# Altium integrated library National Semiconductor Audio.IntLib: 683 symbols (part 8 of 18)
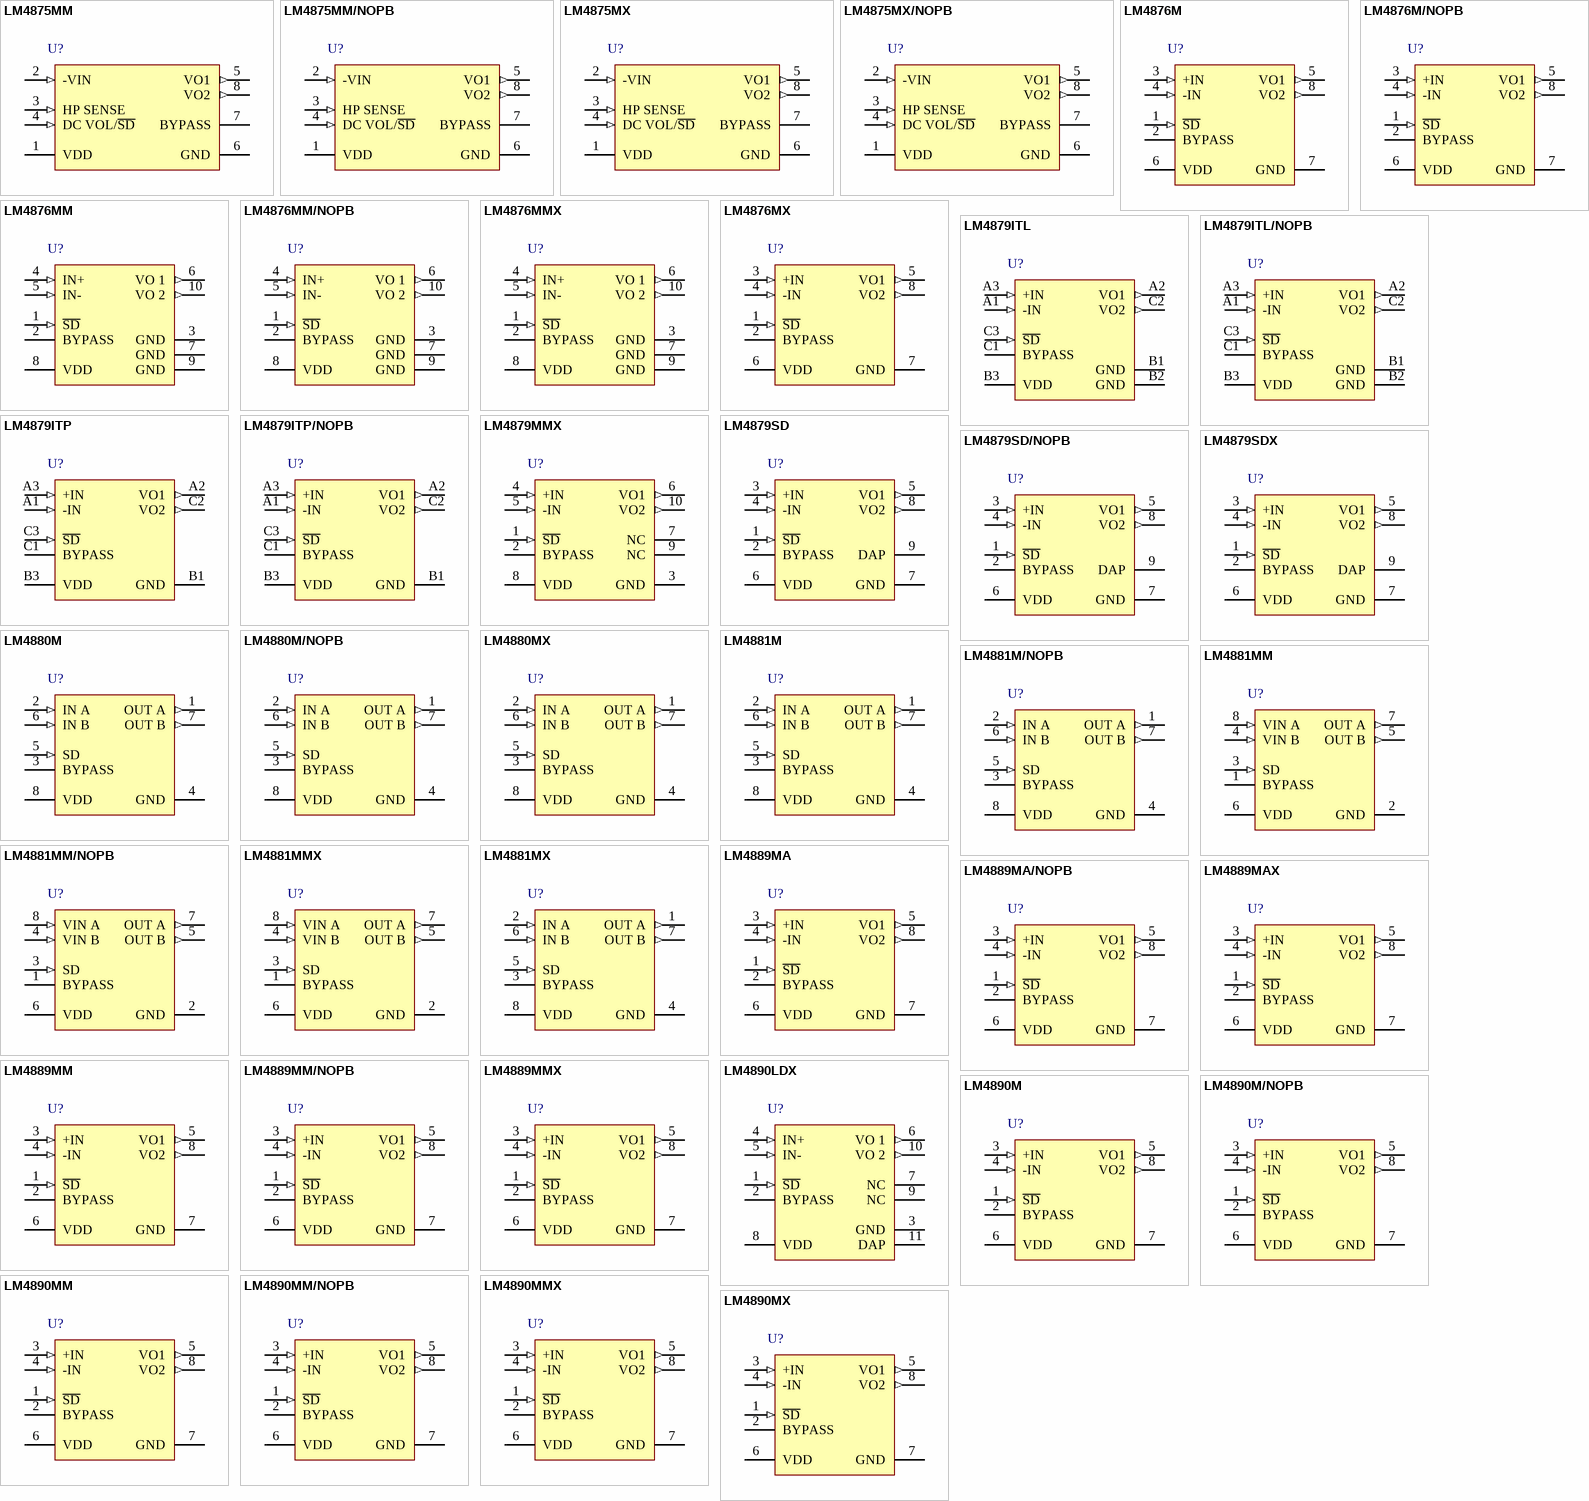
[diagram p34: symbols LM4875MM to LM4890MX]

## LM4890MX
designator U?
1W Audio Power Amplifier, 8-pin Narrow SOIC; PartNumber: LM4890MX; Manufacturer: National Semiconductor; PackageTopMarking: NSZXTT*LM48*90M; PowerWise: N; CompType: Audio IC; High-Reliability: Y; DatasheetVersion: Jul-2006; PackageVersion: revM, May-2009; PackageReference: M08A; PackageDescription: SOIC Narrow, 4.9 x 3.9 x 1.45mm, 8 Lead, 1.27mm Pitch; RoHS: N; PinCount: 8; Code_JEDEC: MS-012-AA; Code_IPC: SOIC127P600-8; ComponentLink1Description: Manufacturer URL; ComponentLink1URL: http://www.national.com/; ComponentLink2Description: LM4890 Datasheet; ComponentLink2URL: http://www.national.com/ds/LM/LM4890.pdf; ComponentLink3Description: LM4890 Web Page; ComponentLink3URL: http://www.national.com/pf/LM/LM4890.html; ComponentLink4Description: M08A Package Page; ComponentLink4URL: http://www.national.com/packaging/folders/m08a.html
footprint M08A_N (SOIC, 8-Leads, Body 4.9x3.9mm, Pitch 1.27mm, IPC Medium Density)
footprint M08A_L (SOIC, 8-Leads, Body 4.9x3.9mm, Pitch 1.27mm, IPC High Density)
footprint M08A_M (SOIC, 8-Leads, Body 4.9x3.9mm, Pitch 1.27mm, IPC Low Density)
pins: 1 ~{SD} (in), 2 BYPASS, 3 +IN (in), 4 -IN (in), 5 VO1 (out), 6 VDD (power), 7 GND (power), 8 VO2 (out)

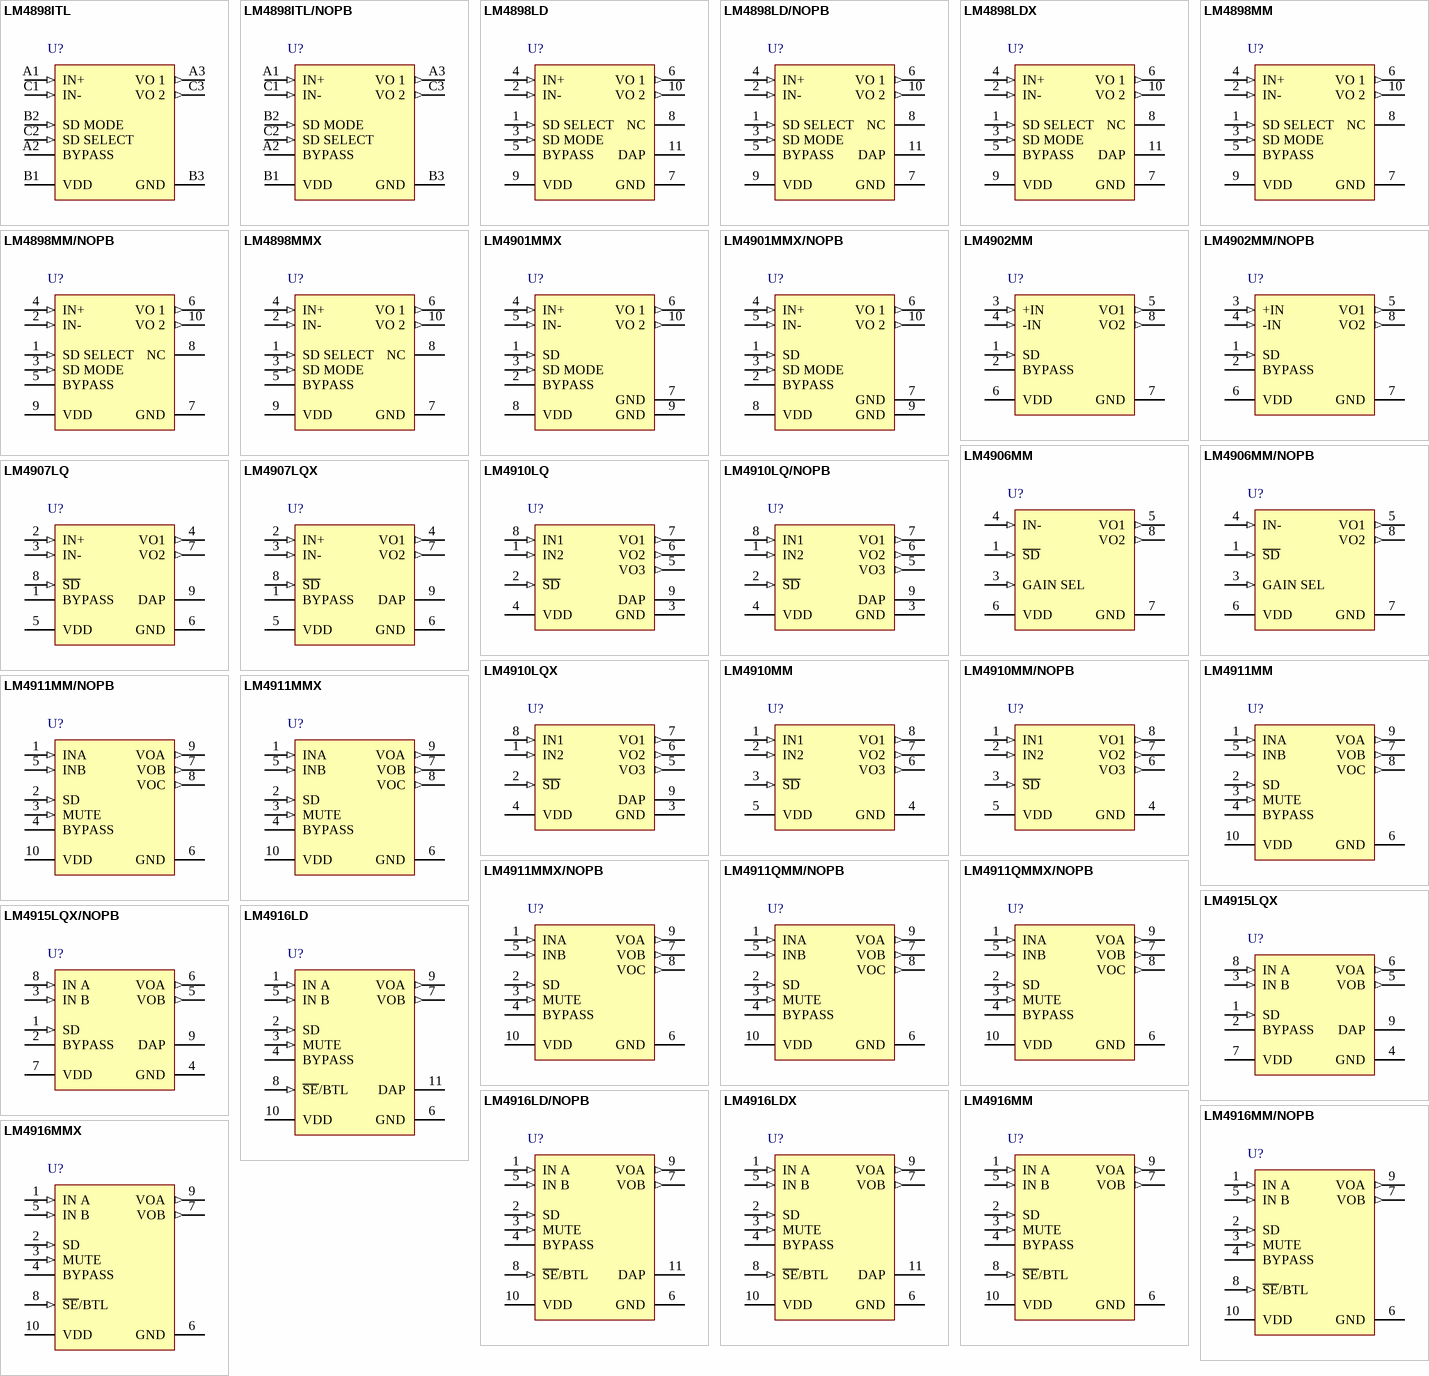
[diagram p10: symbols LM4898ITL to LM4916MMX]

## LM4898ITL
designator U?
1W Fully Differential Audio Power Amplifier With Shutdown Select, 9-pin Micro SMD; PartNumber: LM4898ITL; Manufacturer: National Semiconductor; PackageTopMarking: XVG*I C3; PowerWise: N; CompType: Audio IC; High-Reliability: Y; DatasheetVersion: Jul-2003; PackageVersion: revC, Jan-2004; PackageReference: TLA09AAA; PackageDescription: Thin Micro SMD, 9 Bump (Large), 0.5mm Pitch; RoHS: Y; PinCount: 9; Code_JEDEC: MO-211-DD; ComponentLink1Description: Manufacturer URL; ComponentLink1URL: http://www.national.com/; ComponentLink2Description: LM4898 Datasheet; ComponentLink2URL: http://www.national.com/ds/LM/LM4898.pdf; ComponentLink3Description: LM4898 Web Page; ComponentLink3URL: http://www.national.com/pf/LM/LM4898.html; ComponentLink4Description: TLA09AAA Package Page; ComponentLink4URL: http://www.national.com/packaging/folders/tla09aaa.html
footprint TLA09AAA (Micro SMD, 9-Leads, Body 1.52x1.52mm, Pitch 0.5mm, NSC Recommended)
pins: A1 IN+ (in), A2 BYPASS, A3 VO 1 (out), B1 VDD (power), B2 SD MODE (in), B3 GND (power), C1 IN- (in), C2 SD SELECT (in), C3 VO 2 (out)

## LM4898ITL/NOPB
designator U?
1W Fully Differential Audio Power Amplifier With Shutdown Select, 9-pin Micro SMD, Pb-Free; PartNumber: LM4898ITL/NOPB; Manufacturer: National Semiconductor; PackageTopMarking: XVG*I C3; PowerWise: N; CompType: Audio IC; High-Reliability: Y; DatasheetVersion: Jul-2003; PackageVersion: revC, Jan-2004; PackageReference: TLA09AAA; PackageDescription: Thin Micro SMD, 9 Bump (Large), 0.5mm Pitch; RoHS: Y; PinCount: 9; Code_JEDEC: MO-211-DD; ComponentLink1Description: Manufacturer URL; ComponentLink1URL: http://www.national.com/; ComponentLink2Description: LM4898 Datasheet; ComponentLink2URL: http://www.national.com/ds/LM/LM4898.pdf; ComponentLink3Description: LM4898 Web Page; ComponentLink3URL: http://www.national.com/pf/LM/LM4898.html; ComponentLink4Description: TLA09AAA Package Page; ComponentLink4URL: http://www.national.com/packaging/folders/tla09aaa.html
footprint TLA09AAA (Micro SMD, 9-Leads, Body 1.52x1.52mm, Pitch 0.5mm, NSC Recommended)
pins: A1 IN+ (in), A2 BYPASS, A3 VO 1 (out), B1 VDD (power), B2 SD MODE (in), B3 GND (power), C1 IN- (in), C2 SD SELECT (in), C3 VO 2 (out)

## LM4898LD
designator U?
1W Fully Differential Audio Power Amplifier With Shutdown Select, 11-pin LLP; PartNumber: LM4898LD; Manufacturer: National Semiconductor; PackageTopMarking: ZXYTT*L4898; PowerWise: N; CompType: Audio IC; High-Reliability: Y; DatasheetVersion: Jul-2003; PackageVersion: revB, Jun-2003; PackageReference: LDA10B; PackageDescription: LLP, Plastic, Dual, 3 x 4 x 0.75mm Body, 10 Lead, 0.5mm Pitch; RoHS: N; PinCount: 10; Code_JEDEC: MO-229-WEGD; ComponentLink1Description: Manufacturer URL; ComponentLink1URL: http://www.national.com/; ComponentLink2Description: LM4898 Datasheet; ComponentLink2URL: http://www.national.com/ds/LM/LM4898.pdf; ComponentLink3Description: LM4898 Web Page; ComponentLink3URL: http://www.national.com/pf/LM/LM4898.html; ComponentLink4Description: LDA10B Package Page; ComponentLink4URL: http://www.national.com/packaging/folders/lda10b.html
footprint LDA10B (PSON, 10-Leads, Body 3x4mm, Pitch 0.5mm, NSC Recommended)
pins: 1 SD SELECT (in), 2 IN- (in), 3 SD MODE (in), 4 IN+ (in), 5 BYPASS, 6 VO 1 (out), 7 GND (power), 8 NC, 9 VDD (power), 10 VO 2 (out), 11 DAP (power)

## LM4898LD/NOPB
designator U?
1W Fully Differential Audio Power Amplifier With Shutdown Select, 10-pin LLP, Pb-Free; PartNumber: LM4898LD/NOPB; Manufacturer: National Semiconductor; PackageTopMarking: ZXYTT*L4898; PowerWise: N; CompType: Audio IC; High-Reliability: Y; DatasheetVersion: Jul-2003; PackageVersion: revB, Jun-2003; PackageReference: LDA10B; PackageDescription: LLP, Plastic, Dual, 3 x 4 x 0.75mm Body, 10 Lead, 0.5mm Pitch; RoHS: Y; PinCount: 10; Code_JEDEC: MO-229-WEGD; ComponentLink1Description: Manufacturer URL; ComponentLink1URL: http://www.national.com/; ComponentLink2Description: LM4898 Datasheet; ComponentLink2URL: http://www.national.com/ds/LM/LM4898.pdf; ComponentLink3Description: LM4898 Web Page; ComponentLink3URL: http://www.national.com/pf/LM/LM4898.html; ComponentLink4Description: LDA10B Package Page; ComponentLink4URL: http://www.national.com/packaging/folders/lda10b.html
footprint LDA10B (PSON, 10-Leads, Body 3x4mm, Pitch 0.5mm, NSC Recommended)
pins: 1 SD SELECT (in), 2 IN- (in), 3 SD MODE (in), 4 IN+ (in), 5 BYPASS, 6 VO 1 (out), 7 GND (power), 8 NC, 9 VDD (power), 10 VO 2 (out), 11 DAP (power)

## LM4898LDX
designator U?
1W Fully Differential Audio Power Amplifier With Shutdown Select, 10-pin LLP; PartNumber: LM4898LDX; Manufacturer: National Semiconductor; PackageTopMarking: ZXYTT*L4898; PowerWise: N; CompType: Audio IC; High-Reliability: Y; DatasheetVersion: Jul-2003; PackageVersion: revB, Jun-2003; PackageReference: LDA10B; PackageDescription: LLP, Plastic, Dual, 3 x 4 x 0.75mm Body, 10 Lead, 0.5mm Pitch; RoHS: N; PinCount: 10; Code_JEDEC: MO-229-WEGD; ComponentLink1Description: Manufacturer URL; ComponentLink1URL: http://www.national.com/; ComponentLink2Description: LM4898 Datasheet; ComponentLink2URL: http://www.national.com/ds/LM/LM4898.pdf; ComponentLink3Description: LM4898 Web Page; ComponentLink3URL: http://www.national.com/pf/LM/LM4898.html; ComponentLink4Description: LDA10B Package Page; ComponentLink4URL: http://www.national.com/packaging/folders/lda10b.html
footprint LDA10B (PSON, 10-Leads, Body 3x4mm, Pitch 0.5mm, NSC Recommended)
pins: 1 SD SELECT (in), 2 IN- (in), 3 SD MODE (in), 4 IN+ (in), 5 BYPASS, 6 VO 1 (out), 7 GND (power), 8 NC, 9 VDD (power), 10 VO 2 (out), 11 DAP (power)

## LM4898MM
designator U?
1W Fully Differential Audio Power Amplifier With Shutdown Select, 10-pin MSOP; PartNumber: LM4898MM; Manufacturer: National Semiconductor; PackageTopMarking: ZXTT*GB3; PowerWise: N; CompType: Audio IC; High-Reliability: Y; DatasheetVersion: Jul-2003; PackageVersion: revB, Jul-2003; PackageReference: MUB10A; PackageDescription: Mini-SO, Molded, .118 x .118 x .034in Body, 10 Lead, .0197in Pitch; RoHS: N; PinCount: 10; Code_JEDEC: MO-187-BA; ComponentLink1Description: Manufacturer URL; ComponentLink1URL: http://www.national.com/; ComponentLink2Description: LM4898 Datasheet; ComponentLink2URL: http://www.national.com/ds/LM/LM4898.pdf; ComponentLink3Description: LM4898 Web Page; ComponentLink3URL: http://www.national.com/pf/LM/LM4898.html; ComponentLink4Description: MUB10A Package Page; ComponentLink4URL: http://www.national.com/packaging/folders/mub10a.html
footprint MUB10A_N (TSSOP, 10-Leads, Body 3x3mm, Pitch 0.5mm, IPC Medium Density)
footprint MUB10A_L (TSSOP, 10-Leads, Body 3x3mm, Pitch 0.5mm, IPC High Density)
footprint MUB10A_M (TSSOP, 10-Leads, Body 3x3mm, Pitch 0.5mm, IPC Low Density)
pins: 1 SD SELECT (in), 2 IN- (in), 3 SD MODE (in), 4 IN+ (in), 5 BYPASS, 6 VO 1 (out), 7 GND (power), 8 NC, 9 VDD (power), 10 VO 2 (out)

## LM4898MM/NOPB
designator U?
1W Fully Differential Audio Power Amplifier With Shutdown Select, 10-pin Mini SOIC, Pb-Free; PartNumber: LM4898MM/NOPB; Manufacturer: National Semiconductor; PackageTopMarking: ZXTT*GB3; PowerWise: N; CompType: Audio IC; High-Reliability: Y; DatasheetVersion: Jul-2003; PackageVersion: revB, Jul-2003; PackageReference: MUB10A; PackageDescription: Mini-SO, Molded, .118 x .118 x .034in Body, 10 Lead, .0197in Pitch; RoHS: Y; PinCount: 10; Code_JEDEC: MO-187-BA; ComponentLink1Description: Manufacturer URL; ComponentLink1URL: http://www.national.com/; ComponentLink2Description: LM4898 Datasheet; ComponentLink2URL: http://www.national.com/ds/LM/LM4898.pdf; ComponentLink3Description: LM4898 Web Page; ComponentLink3URL: http://www.national.com/pf/LM/LM4898.html; ComponentLink4Description: MUB10A Package Page; ComponentLink4URL: http://www.national.com/packaging/folders/mub10a.html
footprint MUB10A_N (TSSOP, 10-Leads, Body 3x3mm, Pitch 0.5mm, IPC Medium Density)
footprint MUB10A_L (TSSOP, 10-Leads, Body 3x3mm, Pitch 0.5mm, IPC High Density)
footprint MUB10A_M (TSSOP, 10-Leads, Body 3x3mm, Pitch 0.5mm, IPC Low Density)
pins: 1 SD SELECT (in), 2 IN- (in), 3 SD MODE (in), 4 IN+ (in), 5 BYPASS, 6 VO 1 (out), 7 GND (power), 8 NC, 9 VDD (power), 10 VO 2 (out)

## LM4898MMX
designator U?
1W Fully Differential Audio Power Amplifier With Shutdown Select, 10-pin Mini SOIC; PartNumber: LM4898MMX; Manufacturer: National Semiconductor; PackageTopMarking: ZXTT*GB3; PowerWise: N; CompType: Audio IC; High-Reliability: Y; DatasheetVersion: Jul-2003; PackageVersion: revB, Jul-2003; PackageReference: MUB10A; PackageDescription: Mini-SO, Molded, .118 x .118 x .034in Body, 10 Lead, .0197in Pitch; RoHS: N; PinCount: 10; Code_JEDEC: MO-187-BA; ComponentLink1Description: Manufacturer URL; ComponentLink1URL: http://www.national.com/; ComponentLink2Description: LM4898 Datasheet; ComponentLink2URL: http://www.national.com/ds/LM/LM4898.pdf; ComponentLink3Description: LM4898 Web Page; ComponentLink3URL: http://www.national.com/pf/LM/LM4898.html; ComponentLink4Description: MUB10A Package Page; ComponentLink4URL: http://www.national.com/packaging/folders/mub10a.html
footprint MUB10A_N (TSSOP, 10-Leads, Body 3x3mm, Pitch 0.5mm, IPC Medium Density)
footprint MUB10A_L (TSSOP, 10-Leads, Body 3x3mm, Pitch 0.5mm, IPC High Density)
footprint MUB10A_M (TSSOP, 10-Leads, Body 3x3mm, Pitch 0.5mm, IPC Low Density)
pins: 1 SD SELECT (in), 2 IN- (in), 3 SD MODE (in), 4 IN+ (in), 5 BYPASS, 6 VO 1 (out), 7 GND (power), 8 NC, 9 VDD (power), 10 VO 2 (out)

## LM4901MMX
designator U?
1.6 Watt Audio Power Amplifier with Selectable Shutdown Logic Level, 10-pin Mini SOIC; PartNumber: LM4901MMX; Manufacturer: National Semiconductor; PackageTopMarking: ZXTT*GC1; PowerWise: N; CompType: Audio IC; High-Reliability: Y; DatasheetVersion: Jul-2006; PackageVersion: revB, Jul-2003; PackageReference: MUB10A; PackageDescription: Mini-SO, Molded, .118 x .118 x .034in Body, 10 Lead, .0197in Pitch; RoHS: N; PinCount: 10; Code_JEDEC: MO-187-BA; ComponentLink1Description: Manufacturer URL; ComponentLink1URL: http://www.national.com/; ComponentLink2Description: LM4901 Datasheet; ComponentLink2URL: http://www.national.com/ds/LM/LM4901.pdf; ComponentLink3Description: LM4901 Web Page; ComponentLink3URL: http://www.national.com/pf/LM/LM4901.html; ComponentLink4Description: MUB10A Package Page; ComponentLink4URL: http://www.national.com/packaging/folders/mub10a.html
footprint MUB10A_N (TSSOP, 10-Leads, Body 3x3mm, Pitch 0.5mm, IPC Medium Density)
footprint MUB10A_L (TSSOP, 10-Leads, Body 3x3mm, Pitch 0.5mm, IPC High Density)
footprint MUB10A_M (TSSOP, 10-Leads, Body 3x3mm, Pitch 0.5mm, IPC Low Density)
pins: 1 SD (in), 2 BYPASS, 3 SD MODE (in), 4 IN+ (in), 5 IN- (in), 6 VO 1 (out), 7 GND (power), 8 VDD (power), 9 GND (power), 10 VO 2 (out)

## LM4901MMX/NOPB
designator U?
1.6 Watt Audio Power Amplifier with Selectable Shutdown Logic Level, 10-pin Mini SOIC, Pb-Free; PartNumber: LM4901MMX/NOPB; Manufacturer: National Semiconductor; PackageTopMarking: ZXTT*GC1; PowerWise: N; CompType: Audio IC; High-Reliability: Y; DatasheetVersion: Jul-2006; PackageVersion: revB, Jul-2003; PackageReference: MUB10A; PackageDescription: Mini-SO, Molded, .118 x .118 x .034in Body, 10 Lead, .0197in Pitch; RoHS: Y; PinCount: 10; Code_JEDEC: MO-187-BA; ComponentLink1Description: Manufacturer URL; ComponentLink1URL: http://www.national.com/; ComponentLink2Description: LM4901 Datasheet; ComponentLink2URL: http://www.national.com/ds/LM/LM4901.pdf; ComponentLink3Description: LM4901 Web Page; ComponentLink3URL: http://www.national.com/pf/LM/LM4901.html; ComponentLink4Description: MUB10A Package Page; ComponentLink4URL: http://www.national.com/packaging/folders/mub10a.html
footprint MUB10A_N (TSSOP, 10-Leads, Body 3x3mm, Pitch 0.5mm, IPC Medium Density)
footprint MUB10A_L (TSSOP, 10-Leads, Body 3x3mm, Pitch 0.5mm, IPC High Density)
footprint MUB10A_M (TSSOP, 10-Leads, Body 3x3mm, Pitch 0.5mm, IPC Low Density)
pins: 1 SD (in), 2 BYPASS, 3 SD MODE (in), 4 IN+ (in), 5 IN- (in), 6 VO 1 (out), 7 GND (power), 8 VDD (power), 9 GND (power), 10 VO 2 (out)

## LM4902MM
designator U?
265mW at 3.3V Supply Audio Power Amplifier with Shutdown Mode, 8-pin Mini SOIC; PartNumber: LM4902MM; Manufacturer: National Semiconductor; PackageTopMarking: ZXTT*GC3; PowerWise: N; CompType: Audio IC; High-Reliability: Y; DatasheetVersion: Feb-2002; PackageVersion: revF, Apr-2008; PackageReference: MUA08A; PackageDescription: MINI SOIC, .118 x .118 x .034in, 8 Lead, .0256in Pitch; RoHS: N; PinCount: 8; Code_JEDEC: MO-187-AA; ComponentLink1Description: Manufacturer URL; ComponentLink1URL: http://www.national.com/; ComponentLink2Description: LM4902 Datasheet; ComponentLink2URL: http://www.national.com/ds/LM/LM4902.pdf; ComponentLink3Description: LM4902 Web Page; ComponentLink3URL: http://www.national.com/pf/LM/LM4902.html; ComponentLink4Description: MUA08A Package Page; ComponentLink4URL: http://www.national.com/packaging/folders/mua08a.html
footprint MUA08A_N (TSOP, 8-Leads, Body 3x3mm, Pitch 0.65mm, IPC Medium Density)
footprint MUA08A_L (TSOP, 8-Leads, Body 3x3mm, Pitch 0.65mm, IPC High Density)
footprint MUA08A_M (TSOP, 8-Leads, Body 3x3mm, Pitch 0.65mm, IPC Low Density)
pins: 1 SD (in), 2 BYPASS, 3 +IN (in), 4 -IN (in), 5 VO1 (out), 6 VDD (power), 7 GND (power), 8 VO2 (out)

## LM4902MM/NOPB
designator U?
265mW at 3.3V Supply Audio Power Amplifier with Shutdown Mode, 8-pin Mini SOIC, Pb-Free; PartNumber: LM4902MM/NOPB; Manufacturer: National Semiconductor; PackageTopMarking: ZXTT*GC3; PowerWise: N; CompType: Audio IC; High-Reliability: Y; DatasheetVersion: Feb-2002; PackageVersion: revF, Apr-2008; PackageReference: MUA08A; PackageDescription: MINI SOIC, .118 x .118 x .034in, 8 Lead, .0256in Pitch; RoHS: Y; PinCount: 8; Code_JEDEC: MO-187-AA; ComponentLink1Description: Manufacturer URL; ComponentLink1URL: http://www.national.com/; ComponentLink2Description: LM4902 Datasheet; ComponentLink2URL: http://www.national.com/ds/LM/LM4902.pdf; ComponentLink3Description: LM4902 Web Page; ComponentLink3URL: http://www.national.com/pf/LM/LM4902.html; ComponentLink4Description: MUA08A Package Page; ComponentLink4URL: http://www.national.com/packaging/folders/mua08a.html
footprint MUA08A_N (TSOP, 8-Leads, Body 3x3mm, Pitch 0.65mm, IPC Medium Density)
footprint MUA08A_L (TSOP, 8-Leads, Body 3x3mm, Pitch 0.65mm, IPC High Density)
footprint MUA08A_M (TSOP, 8-Leads, Body 3x3mm, Pitch 0.65mm, IPC Low Density)
pins: 1 SD (in), 2 BYPASS, 3 +IN (in), 4 -IN (in), 5 VO1 (out), 6 VDD (power), 7 GND (power), 8 VO2 (out)

## LM4906MM
designator U?
1W, Bypass-Capacitor-less Audio Power Amplifier with Internal Selectable Gain, 8-pin Mini SOIC; PartNumber: LM4906MM; Manufacturer: National Semiconductor; PackageTopMarking: ZXTT*GA8; PowerWise: N; CompType: Audio IC; High-Reliability: Y; DatasheetVersion: Jan-2005; PackageVersion: revF, Apr-2008; PackageReference: MUA08A; PackageDescription: MINI SOIC, .118 x .118 x .034in, 8 Lead, .0256in Pitch; RoHS: N; PinCount: 8; Code_JEDEC: MO-187-AA; ComponentLink1Description: Manufacturer URL; ComponentLink1URL: http://www.national.com/; ComponentLink2Description: LM4906 Datasheet; ComponentLink2URL: http://www.national.com/ds/LM/LM4906.pdf; ComponentLink3Description: LM4906 Web Page; ComponentLink3URL: http://www.national.com/pf/LM/LM4906.html; ComponentLink4Description: MUA08A Package Page; ComponentLink4URL: http://www.national.com/packaging/folders/mua08a.html
footprint MUA08A_N (TSOP, 8-Leads, Body 3x3mm, Pitch 0.65mm, IPC Medium Density)
footprint MUA08A_L (TSOP, 8-Leads, Body 3x3mm, Pitch 0.65mm, IPC High Density)
footprint MUA08A_M (TSOP, 8-Leads, Body 3x3mm, Pitch 0.65mm, IPC Low Density)
pins: 1 ~{SD} (in), 3 GAIN SEL (in), 4 IN- (in), 5 VO1 (out), 6 VDD (power), 7 GND (power), 8 VO2 (out)

## LM4906MM/NOPB
designator U?
1W, Bypass-Capacitor-less Audio Power Amplifier with Internal Selectable Gain, 8-pin Mini SOIC, Pb-Free; PartNumber: LM4906MM/NOPB; Manufacturer: National Semiconductor; PackageTopMarking: ZXTT*GA8; PowerWise: N; CompType: Audio IC; High-Reliability: Y; DatasheetVersion: Jan-2005; PackageVersion: revF, Apr-2008; PackageReference: MUA08A; PackageDescription: MINI SOIC, .118 x .118 x .034in, 8 Lead, .0256in Pitch; RoHS: Y; PinCount: 8; Code_JEDEC: MO-187-AA; ComponentLink1Description: Manufacturer URL; ComponentLink1URL: http://www.national.com/; ComponentLink2Description: LM4906 Datasheet; ComponentLink2URL: http://www.national.com/ds/LM/LM4906.pdf; ComponentLink3Description: LM4906 Web Page; ComponentLink3URL: http://www.national.com/pf/LM/LM4906.html; ComponentLink4Description: MUA08A Package Page; ComponentLink4URL: http://www.national.com/packaging/folders/mua08a.html
footprint MUA08A_N (TSOP, 8-Leads, Body 3x3mm, Pitch 0.65mm, IPC Medium Density)
footprint MUA08A_L (TSOP, 8-Leads, Body 3x3mm, Pitch 0.65mm, IPC High Density)
footprint MUA08A_M (TSOP, 8-Leads, Body 3x3mm, Pitch 0.65mm, IPC Low Density)
pins: 1 ~{SD} (in), 3 GAIN SEL (in), 4 IN- (in), 5 VO1 (out), 6 VDD (power), 7 GND (power), 8 VO2 (out)

## LM4907LQ
designator U?
1W Audio Power Amplifier, 9-pin LLP; PartNumber: LM4907LQ; Manufacturer: National Semiconductor; PackageTopMarking: XTT*GA9; PowerWise: N; CompType: Audio IC; High-Reliability: Y; DatasheetVersion: Apr-2005; PackageVersion: revB, Nov-2002; PackageReference: LQB08A; PackageDescription: LLP, Plastic, Quad, 2 x 2 x 0.75mm Body, 8 Lead, 0.65mm Pitch; RoHS: N; PinCount: 8; ComponentLink1Description: Manufacturer URL; ComponentLink1URL: http://www.national.com/; ComponentLink2Description: LM4907 Datasheet; ComponentLink2URL: http://www.national.com/ds/LM/LM4907.pdf; ComponentLink3Description: LM4907 Web Page; ComponentLink3URL: http://www.national.com/pf/LM/LM4907.html; ComponentLink4Description: LQB08A Package Page; ComponentLink4URL: http://www.national.com/packaging/folders/lqb08a.html
footprint LQB08A (PQFN, 8-Leads, Body 2x2mm, Pitch 0.65mm, Thermal Pad 0.8x0.8mm, NSC Recommended)
pins: 1 BYPASS, 2 IN+ (in), 3 IN- (in), 4 VO1 (out), 5 VDD (power), 6 GND (power), 7 VO2 (out), 8 ~{SD} (in), 9 DAP (power)

## LM4907LQX
designator U?
1W Audio Power Amplifier, 8-pin LLP; PartNumber: LM4907LQX; Manufacturer: National Semiconductor; PackageTopMarking: XTT*GA9; PowerWise: N; CompType: Audio IC; High-Reliability: Y; DatasheetVersion: Apr-2005; PackageVersion: revB, Nov-2002; PackageReference: LQB08A; PackageDescription: LLP, Plastic, Quad, 2 x 2 x 0.75mm Body, 8 Lead, 0.65mm Pitch; RoHS: N; PinCount: 8; ComponentLink1Description: Manufacturer URL; ComponentLink1URL: http://www.national.com/; ComponentLink2Description: LM4907 Datasheet; ComponentLink2URL: http://www.national.com/ds/LM/LM4907.pdf; ComponentLink3Description: LM4907 Web Page; ComponentLink3URL: http://www.national.com/pf/LM/LM4907.html; ComponentLink4Description: LQB08A Package Page; ComponentLink4URL: http://www.national.com/packaging/folders/lqb08a.html
footprint LQB08A (PQFN, 8-Leads, Body 2x2mm, Pitch 0.65mm, Thermal Pad 0.8x0.8mm, NSC Recommended)
pins: 1 BYPASS, 2 IN+ (in), 3 IN- (in), 4 VO1 (out), 5 VDD (power), 6 GND (power), 7 VO2 (out), 8 ~{SD} (in), 9 DAP (power)

## LM4910LQ
designator U?
Output Capacitor-less Stereo 35mW Headphone Amplifier, 9-pin LLP; PartNumber: LM4910LQ; Manufacturer: National Semiconductor; PackageTopMarking: XTT*GA4; PowerWise: N; CompType: Audio IC; High-Reliability: Y; DatasheetVersion: Jan-2007; PackageVersion: revB, Nov-2002; PackageReference: LQB08A; PackageDescription: LLP, Plastic, Quad, 2 x 2 x 0.75mm Body, 8 Lead, 0.65mm Pitch; RoHS: N; PinCount: 8; ComponentLink1Description: Manufacturer URL; ComponentLink1URL: http://www.national.com/; ComponentLink2Description: LM4910 Datasheet; ComponentLink2URL: http://www.national.com/ds/LM/LM4910.pdf; ComponentLink3Description: LM4910 Web Page; ComponentLink3URL: http://www.national.com/pf/LM/LM4910.html; ComponentLink4Description: LQB08A Package Page; ComponentLink4URL: http://www.national.com/packaging/folders/lqb08a.html
footprint LQB08A (PQFN, 8-Leads, Body 2x2mm, Pitch 0.65mm, Thermal Pad 0.8x0.8mm, NSC Recommended)
pins: 1 IN2 (in), 2 ~{SD} (in), 3 GND (power), 4 VDD (power), 5 VO3 (out), 6 VO2 (out), 7 VO1 (out), 8 IN1 (in), 9 DAP (power)

## LM4910LQ/NOPB
designator U?
Output Capacitor-less Stereo 35mW Headphone Amplifier, 8-pin LLP, Pb-Free; PartNumber: LM4910LQ/NOPB; Manufacturer: National Semiconductor; PackageTopMarking: XTT*GA4; PowerWise: N; CompType: Audio IC; High-Reliability: Y; DatasheetVersion: Jan-2007; PackageVersion: revB, Nov-2002; PackageReference: LQB08A; PackageDescription: LLP, Plastic, Quad, 2 x 2 x 0.75mm Body, 8 Lead, 0.65mm Pitch; RoHS: Y; PinCount: 8; ComponentLink1Description: Manufacturer URL; ComponentLink1URL: http://www.national.com/; ComponentLink2Description: LM4910 Datasheet; ComponentLink2URL: http://www.national.com/ds/LM/LM4910.pdf; ComponentLink3Description: LM4910 Web Page; ComponentLink3URL: http://www.national.com/pf/LM/LM4910.html; ComponentLink4Description: LQB08A Package Page; ComponentLink4URL: http://www.national.com/packaging/folders/lqb08a.html
footprint LQB08A (PQFN, 8-Leads, Body 2x2mm, Pitch 0.65mm, Thermal Pad 0.8x0.8mm, NSC Recommended)
pins: 1 IN2 (in), 2 ~{SD} (in), 3 GND (power), 4 VDD (power), 5 VO3 (out), 6 VO2 (out), 7 VO1 (out), 8 IN1 (in), 9 DAP (power)

## LM4910LQX
designator U?
Output Capacitor-less Stereo 35mW Headphone Amplifier, 8-pin LLP; PartNumber: LM4910LQX; Manufacturer: National Semiconductor; PackageTopMarking: XTT*GA4; PowerWise: N; CompType: Audio IC; High-Reliability: Y; DatasheetVersion: Jan-2007; PackageVersion: revB, Nov-2002; PackageReference: LQB08A; PackageDescription: LLP, Plastic, Quad, 2 x 2 x 0.75mm Body, 8 Lead, 0.65mm Pitch; RoHS: N; PinCount: 8; ComponentLink1Description: Manufacturer URL; ComponentLink1URL: http://www.national.com/; ComponentLink2Description: LM4910 Datasheet; ComponentLink2URL: http://www.national.com/ds/LM/LM4910.pdf; ComponentLink3Description: LM4910 Web Page; ComponentLink3URL: http://www.national.com/pf/LM/LM4910.html; ComponentLink4Description: LQB08A Package Page; ComponentLink4URL: http://www.national.com/packaging/folders/lqb08a.html
footprint LQB08A (PQFN, 8-Leads, Body 2x2mm, Pitch 0.65mm, Thermal Pad 0.8x0.8mm, NSC Recommended)
pins: 1 IN2 (in), 2 ~{SD} (in), 3 GND (power), 4 VDD (power), 5 VO3 (out), 6 VO2 (out), 7 VO1 (out), 8 IN1 (in), 9 DAP (power)

## LM4910MM
designator U?
Output Capacitor-less Stereo 35mW Headphone Amplifier, 8-pin Mini SOIC; PartNumber: LM4910MM; Manufacturer: National Semiconductor; PackageTopMarking: ZXTT*GC2; PowerWise: N; CompType: Audio IC; High-Reliability: Y; DatasheetVersion: Jan-2007; PackageVersion: revF, Apr-2008; PackageReference: MUA08A; PackageDescription: MINI SOIC, .118 x .118 x .034in, 8 Lead, .0256in Pitch; RoHS: N; PinCount: 8; Code_JEDEC: MO-187-AA; ComponentLink1Description: Manufacturer URL; ComponentLink1URL: http://www.national.com/; ComponentLink2Description: LM4910 Datasheet; ComponentLink2URL: http://www.national.com/ds/LM/LM4910.pdf; ComponentLink3Description: LM4910 Web Page; ComponentLink3URL: http://www.national.com/pf/LM/LM4910.html; ComponentLink4Description: MUA08A Package Page; ComponentLink4URL: http://www.national.com/packaging/folders/mua08a.html
footprint MUA08A_N (TSOP, 8-Leads, Body 3x3mm, Pitch 0.65mm, IPC Medium Density)
footprint MUA08A_L (TSOP, 8-Leads, Body 3x3mm, Pitch 0.65mm, IPC High Density)
footprint MUA08A_M (TSOP, 8-Leads, Body 3x3mm, Pitch 0.65mm, IPC Low Density)
pins: 1 IN1 (in), 2 IN2 (in), 3 ~{SD} (in), 4 GND (power), 5 VDD (power), 6 VO3 (out), 7 VO2 (out), 8 VO1 (out)

## LM4910MM/NOPB
designator U?
Output Capacitor-less Stereo 35mW Headphone Amplifier, 8-pin Mini SOIC, Pb-Free; PartNumber: LM4910MM/NOPB; Manufacturer: National Semiconductor; PackageTopMarking: ZXTT*GC2; PowerWise: N; CompType: Audio IC; High-Reliability: Y; DatasheetVersion: Jan-2007; PackageVersion: revF, Apr-2008; PackageReference: MUA08A; PackageDescription: MINI SOIC, .118 x .118 x .034in, 8 Lead, .0256in Pitch; RoHS: Y; PinCount: 8; Code_JEDEC: MO-187-AA; ComponentLink1Description: Manufacturer URL; ComponentLink1URL: http://www.national.com/; ComponentLink2Description: LM4910 Datasheet; ComponentLink2URL: http://www.national.com/ds/LM/LM4910.pdf; ComponentLink3Description: LM4910 Web Page; ComponentLink3URL: http://www.national.com/pf/LM/LM4910.html; ComponentLink4Description: MUA08A Package Page; ComponentLink4URL: http://www.national.com/packaging/folders/mua08a.html
footprint MUA08A_N (TSOP, 8-Leads, Body 3x3mm, Pitch 0.65mm, IPC Medium Density)
footprint MUA08A_L (TSOP, 8-Leads, Body 3x3mm, Pitch 0.65mm, IPC High Density)
footprint MUA08A_M (TSOP, 8-Leads, Body 3x3mm, Pitch 0.65mm, IPC Low Density)
pins: 1 IN1 (in), 2 IN2 (in), 3 ~{SD} (in), 4 GND (power), 5 VDD (power), 6 VO3 (out), 7 VO2 (out), 8 VO1 (out)

## LM4911MM
designator U?
Stereo 40mW Low Noise Headphone Amplifier with Selectable Capacitive Coupled or OCL Output, 10-pin MSOP; PartNumber: LM4911MM; Manufacturer: National Semiconductor; PackageTopMarking: ZXTT*GA3; PowerWise: N; CompType: Audio IC; High-Reliability: Y; DatasheetVersion: Jul-2008; PackageVersion: revB, Jul-2003; PackageReference: MUB10A; PackageDescription: Mini-SO, Molded, .118 x .118 x .034in Body, 10 Lead, .0197in Pitch; RoHS: N; PinCount: 10; Code_JEDEC: MO-187-BA; ComponentLink1Description: Manufacturer URL; ComponentLink1URL: http://www.national.com/; ComponentLink2Description: LM4911 Datasheet; ComponentLink2URL: http://www.national.com/ds/LM/LM4911.pdf; ComponentLink3Description: LM4911 Web Page; ComponentLink3URL: http://www.national.com/pf/LM/LM4911.html; ComponentLink4Description: MUB10A Package Page; ComponentLink4URL: http://www.national.com/packaging/folders/mub10a.html
footprint MUB10A_N (TSSOP, 10-Leads, Body 3x3mm, Pitch 0.5mm, IPC Medium Density)
footprint MUB10A_L (TSSOP, 10-Leads, Body 3x3mm, Pitch 0.5mm, IPC High Density)
footprint MUB10A_M (TSSOP, 10-Leads, Body 3x3mm, Pitch 0.5mm, IPC Low Density)
pins: 1 INA (in), 2 SD (in), 3 MUTE (in), 4 BYPASS, 5 INB (in), 6 GND (power), 7 VOB (out), 8 VOC (out), 9 VOA (out), 10 VDD (power)

## LM4911MM/NOPB
designator U?
Stereo 40mW Low Noise Headphone Amplifier with Selectable Capacitive Coupled or OCL Output, 10-pin Mini SOIC, Pb-Free; PartNumber: LM4911MM/NOPB; Manufacturer: National Semiconductor; PackageTopMarking: ZXTT*GA3; PowerWise: N; CompType: Audio IC; High-Reliability: Y; DatasheetVersion: Jul-2008; PackageVersion: revB, Jul-2003; PackageReference: MUB10A; PackageDescription: Mini-SO, Molded, .118 x .118 x .034in Body, 10 Lead, .0197in Pitch; RoHS: Y; PinCount: 10; Code_JEDEC: MO-187-BA; ComponentLink1Description: Manufacturer URL; ComponentLink1URL: http://www.national.com/; ComponentLink2Description: LM4911 Datasheet; ComponentLink2URL: http://www.national.com/ds/LM/LM4911.pdf; ComponentLink3Description: LM4911 Web Page; ComponentLink3URL: http://www.national.com/pf/LM/LM4911.html; ComponentLink4Description: MUB10A Package Page; ComponentLink4URL: http://www.national.com/packaging/folders/mub10a.html
footprint MUB10A_N (TSSOP, 10-Leads, Body 3x3mm, Pitch 0.5mm, IPC Medium Density)
footprint MUB10A_L (TSSOP, 10-Leads, Body 3x3mm, Pitch 0.5mm, IPC High Density)
footprint MUB10A_M (TSSOP, 10-Leads, Body 3x3mm, Pitch 0.5mm, IPC Low Density)
pins: 1 INA (in), 2 SD (in), 3 MUTE (in), 4 BYPASS, 5 INB (in), 6 GND (power), 7 VOB (out), 8 VOC (out), 9 VOA (out), 10 VDD (power)

## LM4911MMX
designator U?
Stereo 40mW Low Noise Headphone Amplifier with Selectable Capacitive Coupled or OCL Output, 10-pin Mini SOIC; PartNumber: LM4911MMX; Manufacturer: National Semiconductor; PackageTopMarking: ZXTT*GA3; PowerWise: N; CompType: Audio IC; High-Reliability: Y; DatasheetVersion: Jul-2008; PackageVersion: revB, Jul-2003; PackageReference: MUB10A; PackageDescription: Mini-SO, Molded, .118 x .118 x .034in Body, 10 Lead, .0197in Pitch; RoHS: N; PinCount: 10; Code_JEDEC: MO-187-BA; ComponentLink1Description: Manufacturer URL; ComponentLink1URL: http://www.national.com/; ComponentLink2Description: LM4911 Datasheet; ComponentLink2URL: http://www.national.com/ds/LM/LM4911.pdf; ComponentLink3Description: LM4911 Web Page; ComponentLink3URL: http://www.national.com/pf/LM/LM4911.html; ComponentLink4Description: MUB10A Package Page; ComponentLink4URL: http://www.national.com/packaging/folders/mub10a.html
footprint MUB10A_N (TSSOP, 10-Leads, Body 3x3mm, Pitch 0.5mm, IPC Medium Density)
footprint MUB10A_L (TSSOP, 10-Leads, Body 3x3mm, Pitch 0.5mm, IPC High Density)
footprint MUB10A_M (TSSOP, 10-Leads, Body 3x3mm, Pitch 0.5mm, IPC Low Density)
pins: 1 INA (in), 2 SD (in), 3 MUTE (in), 4 BYPASS, 5 INB (in), 6 GND (power), 7 VOB (out), 8 VOC (out), 9 VOA (out), 10 VDD (power)

## LM4911MMX/NOPB
designator U?
Stereo 40mW Low Noise Headphone Amplifier with Selectable Capacitive Coupled or OCL Output, 10-pin Mini SOIC, Pb-Free; PartNumber: LM4911MMX/NOPB; Manufacturer: National Semiconductor; PackageTopMarking: ZXTT*GA3; PowerWise: N; CompType: Audio IC; High-Reliability: Y; DatasheetVersion: Jul-2008; PackageVersion: revB, Jul-2003; PackageReference: MUB10A; PackageDescription: Mini-SO, Molded, .118 x .118 x .034in Body, 10 Lead, .0197in Pitch; RoHS: Y; PinCount: 10; Code_JEDEC: MO-187-BA; ComponentLink1Description: Manufacturer URL; ComponentLink1URL: http://www.national.com/; ComponentLink2Description: LM4911 Datasheet; ComponentLink2URL: http://www.national.com/ds/LM/LM4911.pdf; ComponentLink3Description: LM4911 Web Page; ComponentLink3URL: http://www.national.com/pf/LM/LM4911.html; ComponentLink4Description: MUB10A Package Page; ComponentLink4URL: http://www.national.com/packaging/folders/mub10a.html
footprint MUB10A_N (TSSOP, 10-Leads, Body 3x3mm, Pitch 0.5mm, IPC Medium Density)
footprint MUB10A_L (TSSOP, 10-Leads, Body 3x3mm, Pitch 0.5mm, IPC High Density)
footprint MUB10A_M (TSSOP, 10-Leads, Body 3x3mm, Pitch 0.5mm, IPC Low Density)
pins: 1 INA (in), 2 SD (in), 3 MUTE (in), 4 BYPASS, 5 INB (in), 6 GND (power), 7 VOB (out), 8 VOC (out), 9 VOA (out), 10 VDD (power)

## LM4911QMM/NOPB
designator U?
Stereo 40mW Low Noise Headphone Amplifier with Selectable Capacitive Coupled or OCL Output, AECQ 2, 10-pin Mini SOIC, 1000 Reel; PartNumber: LM4911QMM/NOPB; Manufacturer: National Semiconductor; PackageTopMarking: ZXTT*GC9; PowerWise: N; CompType: Audio IC; High-Reliability: Y; DatasheetVersion: Jun-2011; PackageVersion: revB, Jul-2003; PackageReference: MUB10A; PackageDescription: Mini-SO, Molded, .118 x .118 x .034in Body, 10 Lead, .0197in Pitch; RoHS: Y; PinCount: 10; Code_JEDEC: MO-187-BA; ComponentLink1Description: Manufacturer URL; ComponentLink1URL: http://www.national.com/; ComponentLink2Description: LM4911 Datasheet; ComponentLink2URL: http://www.national.com/ds/LM/LM4911Q.pdf; ComponentLink3Description: LM4911 Web Page; ComponentLink3URL: http://www.national.com/pf/LM/LM4911.html; ComponentLink4Description: MUB10A Package Page; ComponentLink4URL: http://www.national.com/packaging/folders/mub10a.html
footprint MUB10A_N (TSSOP, 10-Leads, Body 3x3mm, Pitch 0.5mm, IPC Medium Density)
footprint MUB10A_L (TSSOP, 10-Leads, Body 3x3mm, Pitch 0.5mm, IPC High Density)
footprint MUB10A_M (TSSOP, 10-Leads, Body 3x3mm, Pitch 0.5mm, IPC Low Density)
pins: 1 INA (in), 2 SD (in), 3 MUTE (in), 4 BYPASS, 5 INB (in), 6 GND (power), 7 VOB (out), 8 VOC (out), 9 VOA (out), 10 VDD (power)

## LM4911QMMX/NOPB
designator U?
Stereo 40mW Low Noise Headphone Amplifier with Selectable Capacitive Coupled or OCL Output, AECQ 2, 10-pin Mini SOIC, 3500 Reel; PartNumber: LM4911QMMX/NOPB; Manufacturer: National Semiconductor; PackageTopMarking: ZXTT*GC9; PowerWise: N; CompType: Audio IC; High-Reliability: Y; DatasheetVersion: Jun-2011; PackageVersion: revB, Jul-2003; PackageReference: MUB10A; PackageDescription: Mini-SO, Molded, .118 x .118 x .034in Body, 10 Lead, .0197in Pitch; RoHS: Y; PinCount: 10; Code_JEDEC: MO-187-BA; ComponentLink1Description: Manufacturer URL; ComponentLink1URL: http://www.national.com/; ComponentLink2Description: LM4911 Datasheet; ComponentLink2URL: http://www.national.com/ds/LM/LM4911Q.pdf; ComponentLink3Description: LM4911 Web Page; ComponentLink3URL: http://www.national.com/pf/LM/LM4911.html; ComponentLink4Description: MUB10A Package Page; ComponentLink4URL: http://www.national.com/packaging/folders/mub10a.html
footprint MUB10A_N (TSSOP, 10-Leads, Body 3x3mm, Pitch 0.5mm, IPC Medium Density)
footprint MUB10A_L (TSSOP, 10-Leads, Body 3x3mm, Pitch 0.5mm, IPC High Density)
footprint MUB10A_M (TSSOP, 10-Leads, Body 3x3mm, Pitch 0.5mm, IPC Low Density)
pins: 1 INA (in), 2 SD (in), 3 MUTE (in), 4 BYPASS, 5 INB (in), 6 GND (power), 7 VOB (out), 8 VOC (out), 9 VOA (out), 10 VDD (power)

## LM4915LQX
designator U?
Pseudo-Differential Mono Headphone Amplifier with Fixed 6dB Gain, 8-pin LLP; PartNumber: LM4915LQX; Manufacturer: National Semiconductor; PackageTopMarking: XTT*GA5; PowerWise: N; CompType: Audio IC; High-Reliability: Y; DatasheetVersion: May-2003; PackageVersion: revB, Nov-2002; PackageReference: LQB08A; PackageDescription: LLP, Plastic, Quad, 2 x 2 x 0.75mm Body, 8 Lead, 0.65mm Pitch; RoHS: N; PinCount: 8; ComponentLink1Description: Manufacturer URL; ComponentLink1URL: http://www.national.com/; ComponentLink2Description: LM4915 Datasheet; ComponentLink2URL: http://www.national.com/ds/LM/LM4915.pdf; ComponentLink3Description: LM4915 Web Page; ComponentLink3URL: http://www.national.com/pf/LM/LM4915.html; ComponentLink4Description: LQB08A Package Page; ComponentLink4URL: http://www.national.com/packaging/folders/lqb08a.html
footprint LQB08A (PQFN, 8-Leads, Body 2x2mm, Pitch 0.65mm, Thermal Pad 0.8x0.8mm, NSC Recommended)
pins: 1 SD (in), 2 BYPASS, 3 IN B (in), 4 GND (power), 5 VOB (out), 6 VOA (out), 7 VDD (power), 8 IN A (in), 9 DAP (power)

## LM4915LQX/NOPB
designator U?
Pseudo-Differential Mono Headphone Amplifier with Fixed 6dB Gain, 8-pin LLP, Pb-Free; PartNumber: LM4915LQX/NOPB; Manufacturer: National Semiconductor; PackageTopMarking: XTT*GA5; PowerWise: N; CompType: Audio IC; High-Reliability: Y; DatasheetVersion: May-2003; PackageVersion: revB, Nov-2002; PackageReference: LQB08A; PackageDescription: LLP, Plastic, Quad, 2 x 2 x 0.75mm Body, 8 Lead, 0.65mm Pitch; RoHS: Y; PinCount: 8; ComponentLink1Description: Manufacturer URL; ComponentLink1URL: http://www.national.com/; ComponentLink2Description: LM4915 Datasheet; ComponentLink2URL: http://www.national.com/ds/LM/LM4915.pdf; ComponentLink3Description: LM4915 Web Page; ComponentLink3URL: http://www.national.com/pf/LM/LM4915.html; ComponentLink4Description: LQB08A Package Page; ComponentLink4URL: http://www.national.com/packaging/folders/lqb08a.html
footprint LQB08A (PQFN, 8-Leads, Body 2x2mm, Pitch 0.65mm, Thermal Pad 0.8x0.8mm, NSC Recommended)
pins: 1 SD (in), 2 BYPASS, 3 IN B (in), 4 GND (power), 5 VOB (out), 6 VOA (out), 7 VDD (power), 8 IN A (in), 9 DAP (power)

## LM4916LD
designator U?
1.5V, Mono 85mW BTL Output, 14mW Stereo Headphone Audio Amplifier, 11-pin LLP; PartNumber: LM4916LD; Manufacturer: National Semiconductor; PackageTopMarking: ZXYTT*L4916; PowerWise: N; CompType: Audio IC; High-Reliability: Y; DatasheetVersion: Jul-2006; PackageVersion: revB, Jan-2003; PackageReference: LDA10A; PackageDescription: LLP, Plastic, Dual, 3 x 3 x 0.75mm Body, 10 Lead, 0.5mm Pitch; RoHS: N; PinCount: 10; ComponentLink1Description: Manufacturer URL; ComponentLink1URL: http://www.national.com/; ComponentLink2Description: LM4916 Datasheet; ComponentLink2URL: http://www.national.com/ds/LM/LM4916.pdf; ComponentLink3Description: LM4916 Web Page; ComponentLink3URL: http://www.national.com/pf/LM/LM4916.html; ComponentLink4Description: LDA10A Package Page; ComponentLink4URL: http://www.national.com/packaging/folders/lda10a.html
footprint LDA10A (PSON, 10-Leads, Body 3x3mm, Pitch 0.5mm, NSC Recommended)
pins: 1 IN A (in), 2 SD (in), 3 MUTE (in), 4 BYPASS, 5 IN B (in), 6 GND (power), 7 VOB (out), 8 ~{SE}/BTL (in), 9 VOA (out), 10 VDD (power), 11 DAP (power)

## LM4916LD/NOPB
designator U?
1.5V, Mono 85mW BTL Output, 14mW Stereo Headphone Audio Amplifier, 10-pin LLP, Pb-Free; PartNumber: LM4916LD/NOPB; Manufacturer: National Semiconductor; PackageTopMarking: ZXYTT*L4916; PowerWise: N; CompType: Audio IC; High-Reliability: Y; DatasheetVersion: Jul-2006; PackageVersion: revB, Jan-2003; PackageReference: LDA10A; PackageDescription: LLP, Plastic, Dual, 3 x 3 x 0.75mm Body, 10 Lead, 0.5mm Pitch; RoHS: Y; PinCount: 10; ComponentLink1Description: Manufacturer URL; ComponentLink1URL: http://www.national.com/; ComponentLink2Description: LM4916 Datasheet; ComponentLink2URL: http://www.national.com/ds/LM/LM4916.pdf; ComponentLink3Description: LM4916 Web Page; ComponentLink3URL: http://www.national.com/pf/LM/LM4916.html; ComponentLink4Description: LDA10A Package Page; ComponentLink4URL: http://www.national.com/packaging/folders/lda10a.html
footprint LDA10A (PSON, 10-Leads, Body 3x3mm, Pitch 0.5mm, NSC Recommended)
pins: 1 IN A (in), 2 SD (in), 3 MUTE (in), 4 BYPASS, 5 IN B (in), 6 GND (power), 7 VOB (out), 8 ~{SE}/BTL (in), 9 VOA (out), 10 VDD (power), 11 DAP (power)

## LM4916LDX
designator U?
1.5V, Mono 85mW BTL Output, 14mW Stereo Headphone Audio Amplifier, 10-pin LLP; PartNumber: LM4916LDX; Manufacturer: National Semiconductor; PackageTopMarking: ZXYTT*L4916; PowerWise: N; CompType: Audio IC; High-Reliability: Y; DatasheetVersion: Jul-2006; PackageVersion: revB, Jan-2003; PackageReference: LDA10A; PackageDescription: LLP, Plastic, Dual, 3 x 3 x 0.75mm Body, 10 Lead, 0.5mm Pitch; RoHS: N; PinCount: 10; ComponentLink1Description: Manufacturer URL; ComponentLink1URL: http://www.national.com/; ComponentLink2Description: LM4916 Datasheet; ComponentLink2URL: http://www.national.com/ds/LM/LM4916.pdf; ComponentLink3Description: LM4916 Web Page; ComponentLink3URL: http://www.national.com/pf/LM/LM4916.html; ComponentLink4Description: LDA10A Package Page; ComponentLink4URL: http://www.national.com/packaging/folders/lda10a.html
footprint LDA10A (PSON, 10-Leads, Body 3x3mm, Pitch 0.5mm, NSC Recommended)
pins: 1 IN A (in), 2 SD (in), 3 MUTE (in), 4 BYPASS, 5 IN B (in), 6 GND (power), 7 VOB (out), 8 ~{SE}/BTL (in), 9 VOA (out), 10 VDD (power), 11 DAP (power)

## LM4916MM
designator U?
1.5V, Mono 85mW BTL Output, 14mW Stereo Headphone Audio Amplifier, 10-pin MSOP; PartNumber: LM4916MM; Manufacturer: National Semiconductor; PackageTopMarking: ZXTT*GA9; PowerWise: N; CompType: Audio IC; High-Reliability: Y; DatasheetVersion: Jul-2006; PackageVersion: revB, Jul-2003; PackageReference: MUB10A; PackageDescription: Mini-SO, Molded, .118 x .118 x .034in Body, 10 Lead, .0197in Pitch; RoHS: N; PinCount: 10; Code_JEDEC: MO-187-BA; ComponentLink1Description: Manufacturer URL; ComponentLink1URL: http://www.national.com/; ComponentLink2Description: LM4916 Datasheet; ComponentLink2URL: http://www.national.com/ds/LM/LM4916.pdf; ComponentLink3Description: LM4916 Web Page; ComponentLink3URL: http://www.national.com/pf/LM/LM4916.html; ComponentLink4Description: MUB10A Package Page; ComponentLink4URL: http://www.national.com/packaging/folders/mub10a.html
footprint MUB10A_N (TSSOP, 10-Leads, Body 3x3mm, Pitch 0.5mm, IPC Medium Density)
footprint MUB10A_L (TSSOP, 10-Leads, Body 3x3mm, Pitch 0.5mm, IPC High Density)
footprint MUB10A_M (TSSOP, 10-Leads, Body 3x3mm, Pitch 0.5mm, IPC Low Density)
pins: 1 IN A (in), 2 SD (in), 3 MUTE (in), 4 BYPASS, 5 IN B (in), 6 GND (power), 7 VOB (out), 8 ~{SE}/BTL (in), 9 VOA (out), 10 VDD (power)

## LM4916MM/NOPB
designator U?
1.5V, Mono 85mW BTL Output, 14mW Stereo Headphone Audio Amplifier, 10-pin Mini SOIC, Pb-Free; PartNumber: LM4916MM/NOPB; Manufacturer: National Semiconductor; PackageTopMarking: ZXTT*GA9; PowerWise: N; CompType: Audio IC; High-Reliability: Y; DatasheetVersion: Jul-2006; PackageVersion: revB, Jul-2003; PackageReference: MUB10A; PackageDescription: Mini-SO, Molded, .118 x .118 x .034in Body, 10 Lead, .0197in Pitch; RoHS: Y; PinCount: 10; Code_JEDEC: MO-187-BA; ComponentLink1Description: Manufacturer URL; ComponentLink1URL: http://www.national.com/; ComponentLink2Description: LM4916 Datasheet; ComponentLink2URL: http://www.national.com/ds/LM/LM4916.pdf; ComponentLink3Description: LM4916 Web Page; ComponentLink3URL: http://www.national.com/pf/LM/LM4916.html; ComponentLink4Description: MUB10A Package Page; ComponentLink4URL: http://www.national.com/packaging/folders/mub10a.html
footprint MUB10A_N (TSSOP, 10-Leads, Body 3x3mm, Pitch 0.5mm, IPC Medium Density)
footprint MUB10A_L (TSSOP, 10-Leads, Body 3x3mm, Pitch 0.5mm, IPC High Density)
footprint MUB10A_M (TSSOP, 10-Leads, Body 3x3mm, Pitch 0.5mm, IPC Low Density)
pins: 1 IN A (in), 2 SD (in), 3 MUTE (in), 4 BYPASS, 5 IN B (in), 6 GND (power), 7 VOB (out), 8 ~{SE}/BTL (in), 9 VOA (out), 10 VDD (power)

## LM4916MMX
designator U?
1.5V, Mono 85mW BTL Output, 14mW Stereo Headphone Audio Amplifier, 10-pin Mini SOIC; PartNumber: LM4916MMX; Manufacturer: National Semiconductor; PackageTopMarking: ZXTT*GA9; PowerWise: N; CompType: Audio IC; High-Reliability: Y; DatasheetVersion: Jul-2006; PackageVersion: revB, Jul-2003; PackageReference: MUB10A; PackageDescription: Mini-SO, Molded, .118 x .118 x .034in Body, 10 Lead, .0197in Pitch; RoHS: N; PinCount: 10; Code_JEDEC: MO-187-BA; ComponentLink1Description: Manufacturer URL; ComponentLink1URL: http://www.national.com/; ComponentLink2Description: LM4916 Datasheet; ComponentLink2URL: http://www.national.com/ds/LM/LM4916.pdf; ComponentLink3Description: LM4916 Web Page; ComponentLink3URL: http://www.national.com/pf/LM/LM4916.html; ComponentLink4Description: MUB10A Package Page; ComponentLink4URL: http://www.national.com/packaging/folders/mub10a.html
footprint MUB10A_N (TSSOP, 10-Leads, Body 3x3mm, Pitch 0.5mm, IPC Medium Density)
footprint MUB10A_L (TSSOP, 10-Leads, Body 3x3mm, Pitch 0.5mm, IPC High Density)
footprint MUB10A_M (TSSOP, 10-Leads, Body 3x3mm, Pitch 0.5mm, IPC Low Density)
pins: 1 IN A (in), 2 SD (in), 3 MUTE (in), 4 BYPASS, 5 IN B (in), 6 GND (power), 7 VOB (out), 8 ~{SE}/BTL (in), 9 VOA (out), 10 VDD (power)

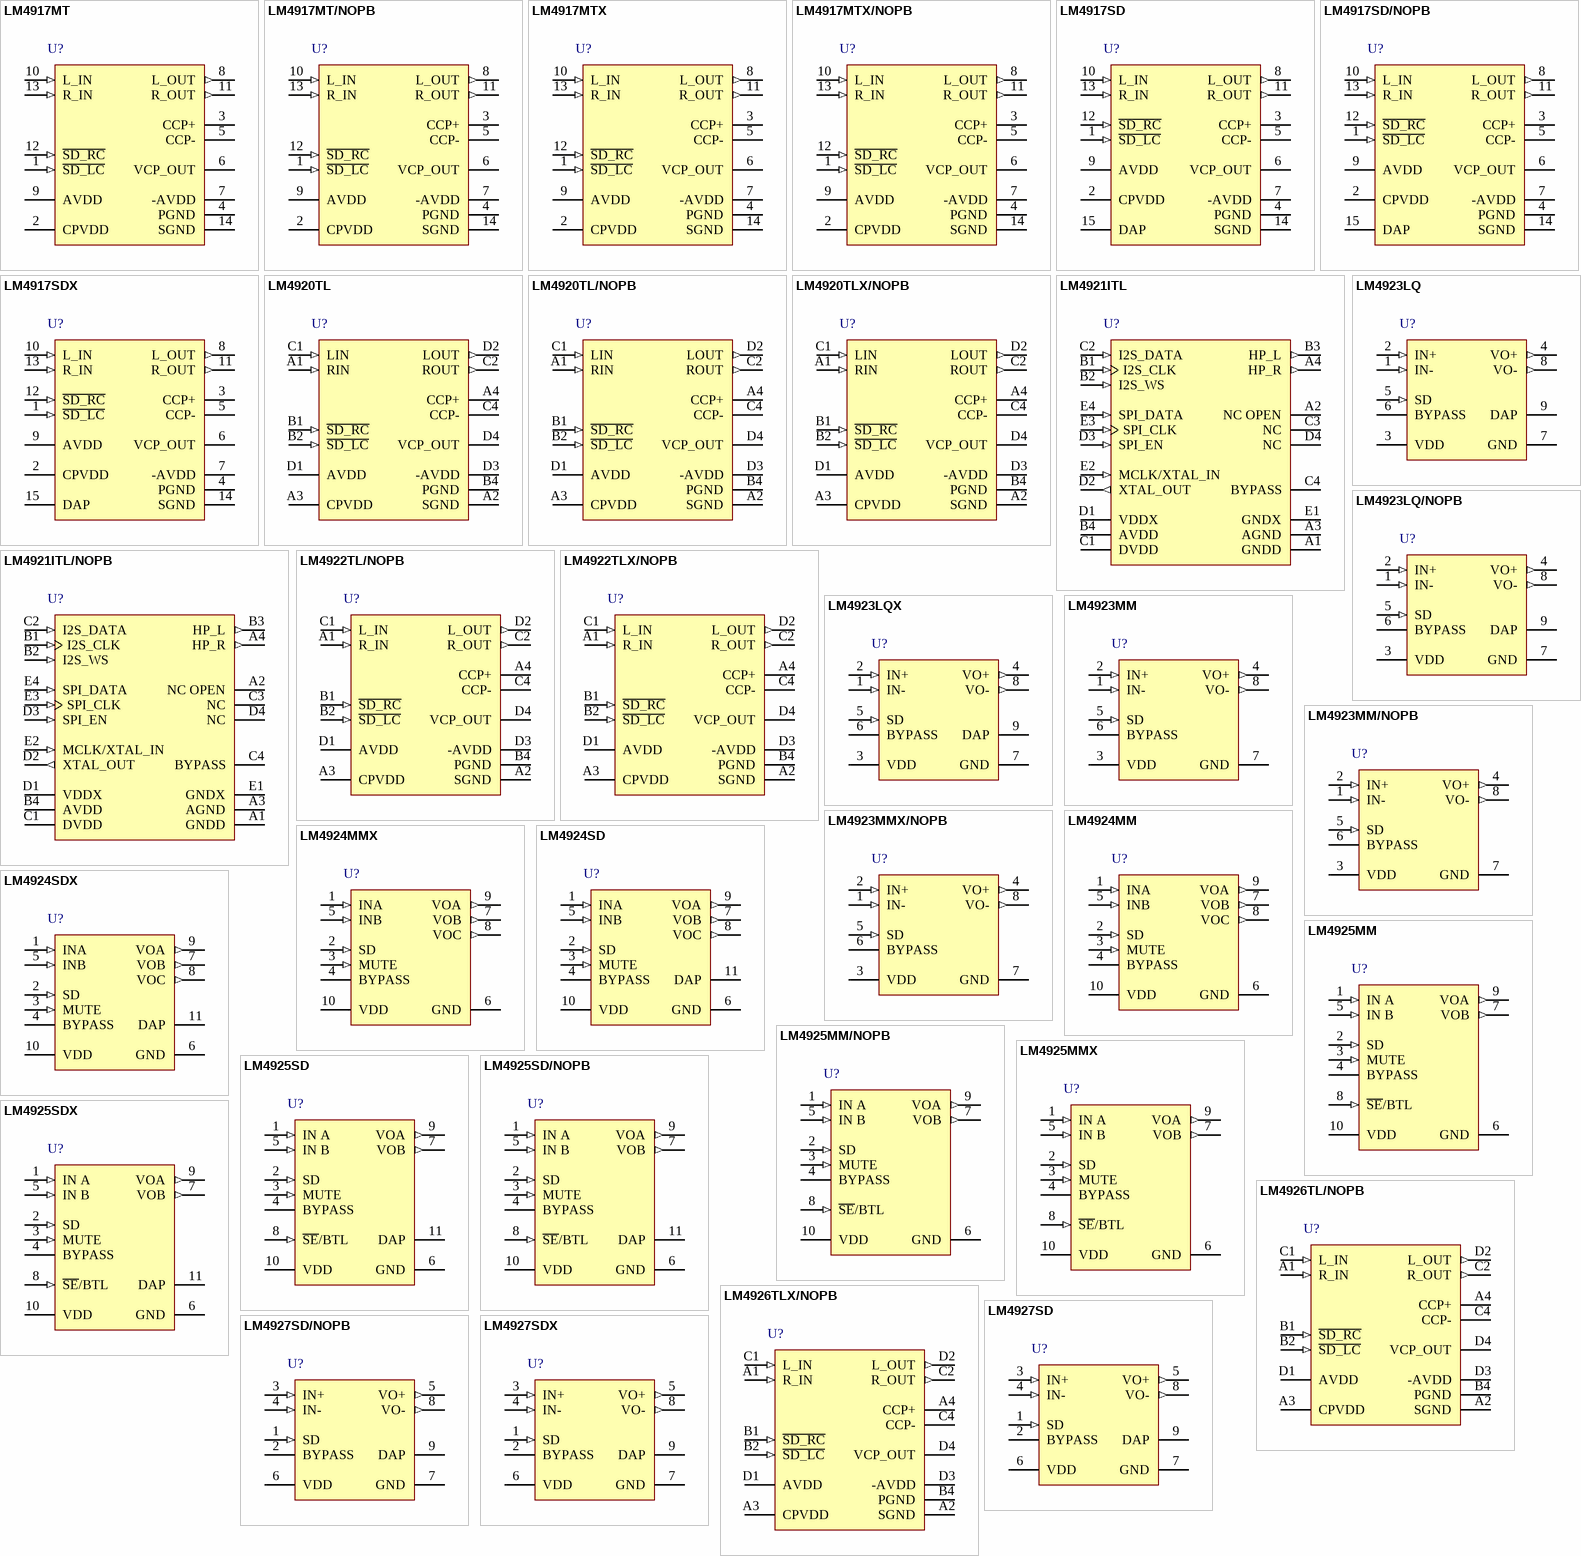
[diagram p11: symbols LM4917MT to LM4927SDX]

## LM4917MT
designator U?
Ground-Referenced, 95mW Stereo Headphone Amplifier, 14-pin TSSOP; PartNumber: LM4917MT; Manufacturer: National Semiconductor; PackageTopMarking: NSZXYTT*L4917*MT; PowerWise: N; CompType: Audio IC; High-Reliability: Y; DatasheetVersion: Nov-2004; PackageVersion: revD, Jun-2003; PackageReference: MTC14; PackageDescription: Molded TSSOP, JEDEC, 5 x 4.4 x 0.9mm Body, 14 Lead, 0.65mm Pitch; RoHS: N; PinCount: 14; Code_JEDEC: MO-153-AB-1; ComponentLink1Description: Manufacturer URL; ComponentLink1URL: http://www.national.com/; ComponentLink2Description: LM4917 Datasheet; ComponentLink2URL: http://www.national.com/ds/LM/LM4917.pdf; ComponentLink3Description: LM4917 Web Page; ComponentLink3URL: http://www.national.com/pf/LM/LM4917.html; ComponentLink4Description: MTC14 Package Page; ComponentLink4URL: http://www.national.com/packaging/folders/mtc14.html
footprint MTC14_N (TSOP, 14-Leads, Body 5x4.4mm, Pitch 0.65mm, IPC Medium Density)
footprint MTC14_L (TSOP, 14-Leads, Body 5x4.4mm, Pitch 0.65mm, IPC High Density)
footprint MTC14_M (TSOP, 14-Leads, Body 5x4.4mm, Pitch 0.65mm, IPC Low Density)
pins: 1 ~{SD_LC} (in), 2 CPVDD (power), 3 CCP+, 4 PGND (power), 5 CCP-, 6 VCP_OUT (power), 7 -AVDD (power), 8 L_OUT (out), 9 AVDD (power), 10 L_IN (in), 11 R_OUT (out), 12 ~{SD_RC} (in), 13 R_IN (in), 14 SGND (power)

## LM4917MT/NOPB
designator U?
Ground-Referenced, 95mW Stereo Headphone Amplifier, 14-pin TSSOP, Pb-Free; PartNumber: LM4917MT/NOPB; Manufacturer: National Semiconductor; PackageTopMarking: NSZXYTT*L4917*MT; PowerWise: N; CompType: Audio IC; High-Reliability: Y; DatasheetVersion: Nov-2004; PackageVersion: revD, Jun-2003; PackageReference: MTC14; PackageDescription: Molded TSSOP, JEDEC, 5 x 4.4 x 0.9mm Body, 14 Lead, 0.65mm Pitch; RoHS: Y; PinCount: 14; Code_JEDEC: MO-153-AB-1; ComponentLink1Description: Manufacturer URL; ComponentLink1URL: http://www.national.com/; ComponentLink2Description: LM4917 Datasheet; ComponentLink2URL: http://www.national.com/ds/LM/LM4917.pdf; ComponentLink3Description: LM4917 Web Page; ComponentLink3URL: http://www.national.com/pf/LM/LM4917.html; ComponentLink4Description: MTC14 Package Page; ComponentLink4URL: http://www.national.com/packaging/folders/mtc14.html
footprint MTC14_N (TSOP, 14-Leads, Body 5x4.4mm, Pitch 0.65mm, IPC Medium Density)
footprint MTC14_L (TSOP, 14-Leads, Body 5x4.4mm, Pitch 0.65mm, IPC High Density)
footprint MTC14_M (TSOP, 14-Leads, Body 5x4.4mm, Pitch 0.65mm, IPC Low Density)
pins: 1 ~{SD_LC} (in), 2 CPVDD (power), 3 CCP+, 4 PGND (power), 5 CCP-, 6 VCP_OUT (power), 7 -AVDD (power), 8 L_OUT (out), 9 AVDD (power), 10 L_IN (in), 11 R_OUT (out), 12 ~{SD_RC} (in), 13 R_IN (in), 14 SGND (power)

## LM4917MTX
designator U?
Ground-Referenced, 95mW Stereo Headphone Amplifier, 14-pin TSSOP; PartNumber: LM4917MTX; Manufacturer: National Semiconductor; PackageTopMarking: NSZXYTT*L4917*MT; PowerWise: N; CompType: Audio IC; High-Reliability: Y; DatasheetVersion: Nov-2004; PackageVersion: revD, Jun-2003; PackageReference: MTC14; PackageDescription: Molded TSSOP, JEDEC, 5 x 4.4 x 0.9mm Body, 14 Lead, 0.65mm Pitch; RoHS: N; PinCount: 14; Code_JEDEC: MO-153-AB-1; ComponentLink1Description: Manufacturer URL; ComponentLink1URL: http://www.national.com/; ComponentLink2Description: LM4917 Datasheet; ComponentLink2URL: http://www.national.com/ds/LM/LM4917.pdf; ComponentLink3Description: LM4917 Web Page; ComponentLink3URL: http://www.national.com/pf/LM/LM4917.html; ComponentLink4Description: MTC14 Package Page; ComponentLink4URL: http://www.national.com/packaging/folders/mtc14.html
footprint MTC14_N (TSOP, 14-Leads, Body 5x4.4mm, Pitch 0.65mm, IPC Medium Density)
footprint MTC14_L (TSOP, 14-Leads, Body 5x4.4mm, Pitch 0.65mm, IPC High Density)
footprint MTC14_M (TSOP, 14-Leads, Body 5x4.4mm, Pitch 0.65mm, IPC Low Density)
pins: 1 ~{SD_LC} (in), 2 CPVDD (power), 3 CCP+, 4 PGND (power), 5 CCP-, 6 VCP_OUT (power), 7 -AVDD (power), 8 L_OUT (out), 9 AVDD (power), 10 L_IN (in), 11 R_OUT (out), 12 ~{SD_RC} (in), 13 R_IN (in), 14 SGND (power)

## LM4917MTX/NOPB
designator U?
Ground-Referenced, 95mW Stereo Headphone Amplifier, 14-pin TSSOP, Pb-Free; PartNumber: LM4917MTX/NOPB; Manufacturer: National Semiconductor; PackageTopMarking: NSZXYTT*L4917*MT; PowerWise: N; CompType: Audio IC; High-Reliability: Y; DatasheetVersion: Nov-2004; PackageVersion: revD, Jun-2003; PackageReference: MTC14; PackageDescription: Molded TSSOP, JEDEC, 5 x 4.4 x 0.9mm Body, 14 Lead, 0.65mm Pitch; RoHS: Y; PinCount: 14; Code_JEDEC: MO-153-AB-1; ComponentLink1Description: Manufacturer URL; ComponentLink1URL: http://www.national.com/; ComponentLink2Description: LM4917 Datasheet; ComponentLink2URL: http://www.national.com/ds/LM/LM4917.pdf; ComponentLink3Description: LM4917 Web Page; ComponentLink3URL: http://www.national.com/pf/LM/LM4917.html; ComponentLink4Description: MTC14 Package Page; ComponentLink4URL: http://www.national.com/packaging/folders/mtc14.html
footprint MTC14_N (TSOP, 14-Leads, Body 5x4.4mm, Pitch 0.65mm, IPC Medium Density)
footprint MTC14_L (TSOP, 14-Leads, Body 5x4.4mm, Pitch 0.65mm, IPC High Density)
footprint MTC14_M (TSOP, 14-Leads, Body 5x4.4mm, Pitch 0.65mm, IPC Low Density)
pins: 1 ~{SD_LC} (in), 2 CPVDD (power), 3 CCP+, 4 PGND (power), 5 CCP-, 6 VCP_OUT (power), 7 -AVDD (power), 8 L_OUT (out), 9 AVDD (power), 10 L_IN (in), 11 R_OUT (out), 12 ~{SD_RC} (in), 13 R_IN (in), 14 SGND (power)